# Altium schematic symbol library TC33X-2-503E.Schlib: 1 symbol
Pins are listed as number, name and electrical type; pins without a type are passive.

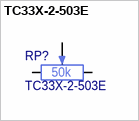
[diagram p0: symbol TC33X-2-503E]

## TC33X-2-503E
designator RP?  Resistance: 50k
pins: 1, 2, 3